# Altium footprint library CONN(uFL, UMRF_PCB_SMT_3_PAD).PcbLib: 1 footprints
Each footprint in its own frame and in the unit in brackets; x right, y up, seen from the top. Pads: shape width x height; smd on the part's side, far side on the other; paste and mask are expansions set on the pad; w line width, h text height; cw(c..) or ccw(c..) is an arc to the next point about the centre after c.
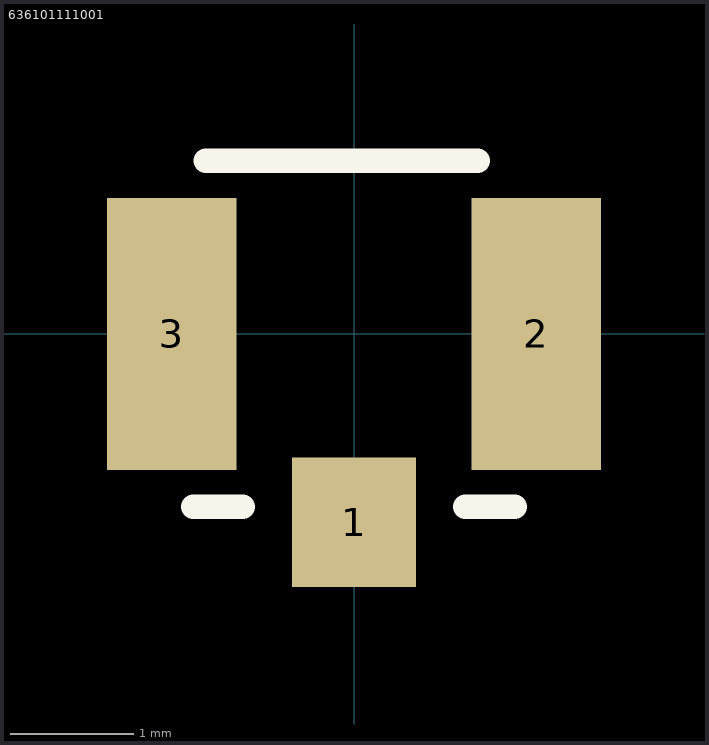
[diagram p0: the footprint, top view; thin cyan lines are the x and y axes]

## 636101111001 [mm]
pads (3):
  rect 1x1.05 smd: 1(0,-1.525)
  rect 1.05x2.2 smd: 2(1.475,0) 3(-1.475,0)
Top Overlay:
  lines w0.2: -1.3,-1.4 -0.9,-1.4 ; -1.2,1.4 1,1.4 ; 0.9,-1.4 1.3,-1.4
3D body "636101111001.stp": height 1.25, standoff 0, extent -1.5,-1.55 1.5,1.551